# EAGLE library part I__74*92 (library ..SMD)
Decade, divide by twelve and binary COUNTER
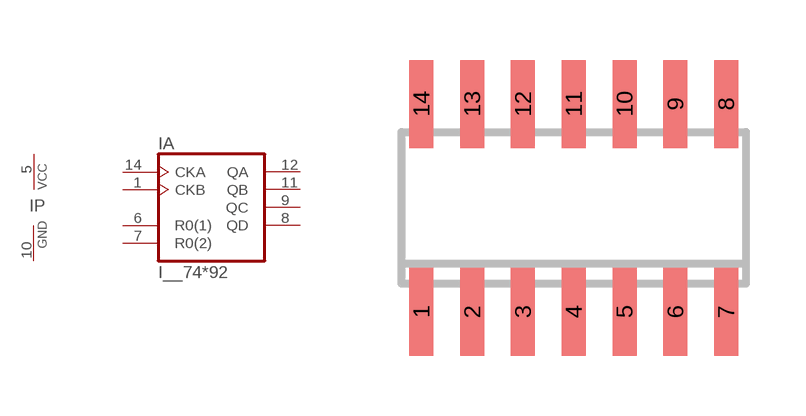
[diagram p189: symbol with the pads of SO14; footprint SO14]

Designator prefix I; gates A=7492 P=PWRN-2

## I__74LS92D  [SO14]
1  A:CKB  in
5  P:VCC  pwr
6  A:R0(1)  in
7  A:R0(2)  in
8  A:QD  out
9  A:QC  out
10  P:GND  pwr
11  A:QB  out
12  A:QA  out
14  A:CKA  in

## Footprint SO14 (pad centres in mm)
Small Outline Package 14
smd 0.6 x 2.2: 1 -3.81,-2.6; 2 -2.54,-2.6; 3 -1.27,-2.6; 4 0,-2.6; 5 1.27,-2.6; 6 2.54,-2.6; 7 3.81,-2.6; 8 3.81,2.6; 9 2.54,2.6; 10 1.27,2.6; 11 0,2.6; 12 -1.27,2.6; 13 -2.54,2.6; 14 -3.81,2.6